# Altium schematic symbol library axsem_testjigs.SCHLIB: 6 symbols
Pins are listed as number, name and electrical type; pins without a type are passive.

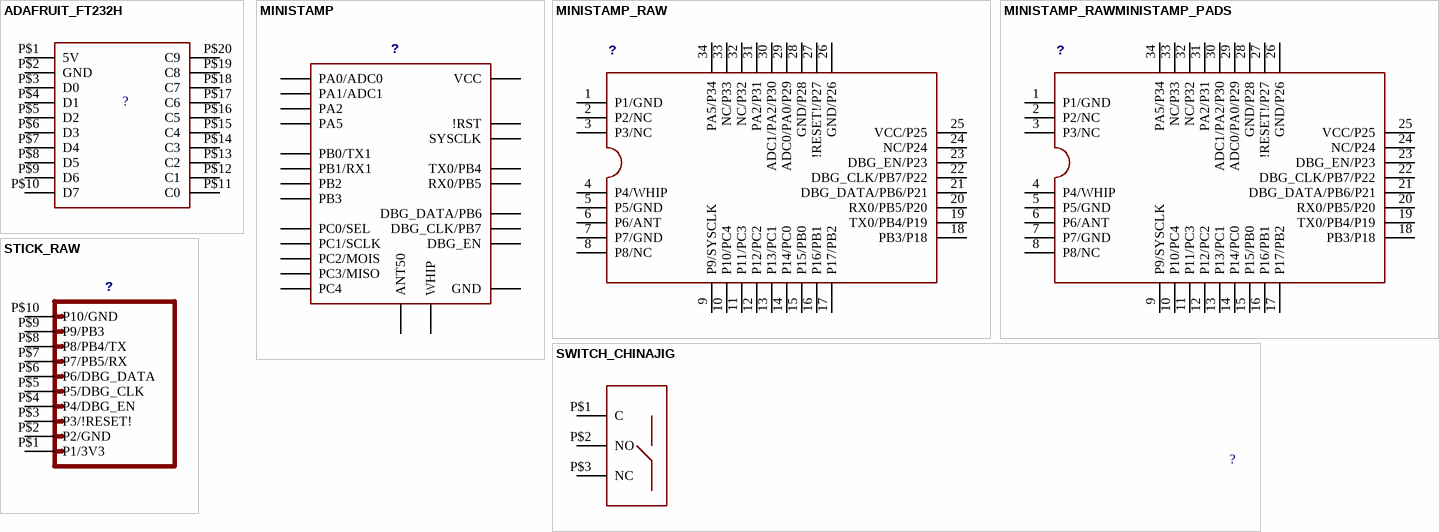
[diagram p0: symbols ADAFRUIT_FT232H to SWITCH_CHINAJIG]

## ADAFRUIT_FT232H
designator ?
footprint ADAFRUIT_FT232H
pins: P$1 5V, P$2 GND, P$3 D0, P$4 D1, P$5 D2, P$6 D3, P$7 D4, P$8 D5, P$9 D6, P$10 D7, P$11 C0, P$12 C1, P$13 C2, P$14 C3, P$15 C4, P$16 C5, P$17 C6, P$18 C7, P$19 C8, P$20 C9

## MINISTAMP
designator ?
footprint MINISTAMP
pins: ?1 SYSCLK, ?2 PC4, ?3 ANT50, ?4 TX0/PB4, ?5 RX0/PB5, ?6 WHIP, ?7 PB0/TX1, ?8 PB1/RX1, ?9 PB2, ?10 DBG_EN, ?11 DBG_CLK/PB7, ?12 DBG_DATA/PB6, ?13 !RST, ?14 GND, ?15 VCC, ?16 PA5, ?17 PA2, ?18 PA1/ADC1, ?19 PA0/ADC0, ?20 PC3/MISO, ?21 PC2/MOIS, ?22 PC1/SCLK, ?23 PC0/SEL, ?24 PB3

## MINISTAMP_RAW
designator ?
footprint MINISTAMP
pins: 1 P1/GND, 2 P2/NC, 3 P3/NC, 4 P4/WHIP, 5 P5/GND, 6 P6/ANT, 7 P7/GND, 8 P8/NC, 9 P9/SYSCLK, 10 P10/PC4, 11 P11/PC3, 12 P12/PC2, 13 P13/PC1, 14 P14/PC0, 15 P15/PB0, 16 P16/PB1, 17 P17/PB2, 18 PB3/P18, 19 TX0/PB4/P19, 20 RX0/PB5/P20, 21 DBG_DATA/PB6/P21, 22 DBG_CLK/PB7/P22, 23 DBG_EN/P23, 24 NC/P24, 25 VCC/P25, 26 GND/P26, 27 !RESET!/P27, 28 GND/P28, 29 ADC0/PA0/P29, 30 ADC1/PA2/P30, 31 PA2/P31, 32 NC/P32, 33 NC/P33, 34 PA5/P34

## MINISTAMP_RAWMINISTAMP_PADS
designator ?
footprint MINISTAMP_PADS
pins: 1 P1/GND, 2 P2/NC, 3 P3/NC, 4 P4/WHIP, 5 P5/GND, 6 P6/ANT, 7 P7/GND, 8 P8/NC, 9 P9/SYSCLK, 10 P10/PC4, 11 P11/PC3, 12 P12/PC2, 13 P13/PC1, 14 P14/PC0, 15 P15/PB0, 16 P16/PB1, 17 P17/PB2, 18 PB3/P18, 19 TX0/PB4/P19, 20 RX0/PB5/P20, 21 DBG_DATA/PB6/P21, 22 DBG_CLK/PB7/P22, 23 DBG_EN/P23, 24 NC/P24, 25 VCC/P25, 26 GND/P26, 27 !RESET!/P27, 28 GND/P28, 29 ADC0/PA0/P29, 30 ADC1/PA2/P30, 31 PA2/P31, 32 NC/P32, 33 NC/P33, 34 PA5/P34

## STICK_RAW
designator ?
footprint STICK
pins: P$1 P1/3V3, P$2 P2/GND, P$3 P3/!RESET!, P$4 P4/DBG_EN, P$5 P5/DBG_CLK, P$6 P6/DBG_DATA, P$7 P7/PB5/RX, P$8 P8/PB4/TX, P$9 P9/PB3, P$10 P10/GND

## SWITCH_CHINAJIG
designator ?
footprint SWITCH_CHINAJIG
pins: P$1 C, P$2 NO, P$3 NC